# Altium schematic symbol library oscillators.SchLib: 2 symbols
Pins are listed as number, name and electrical type; pins without a type are passive.

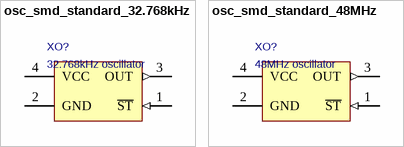
[diagram p0: symbols osc_smd_standard_32.768kHz to osc_smd_standard_48MHz]

## osc_smd_standard_32.768kHz
designator XO?, comment 32.768kHz oscillator
osc_smd_standard_32.768kHz; Supply Voltage: 3.3 V; Frequency: 32.768 kHz
pins: 1 ~{ST} (in) "Stop oscillator (OUT = Hi-Z)", 2 GND (power) "Ground", 3 OUT (out) "48MHz output", 4 VCC (power) "Supply voltage (3.3V)"

## osc_smd_standard_48MHz
designator XO?, comment 48MHz oscillator
osc_smd_standard_48MHz; Supply Voltage: 3.3 V; Frequency: 48 MHz
pins: 1 ~{ST} (in) "Stop oscillator (OUT = Hi-Z)", 2 GND (power) "Ground", 3 OUT (out) "48MHz output", 4 VCC (power) "Supply voltage (3.3V)"